# Altium footprint library WE-PD2A.PcbLib: 4 footprints
Each footprint in its own frame and in the unit in brackets; x right, y up, seen from the top. Pads: shape width x height; smd on the part's side, far side on the other; paste and mask are expansions set on the pad; w line width, h text height; cw(c..) or ccw(c..) is an arc to the next point about the centre after c.
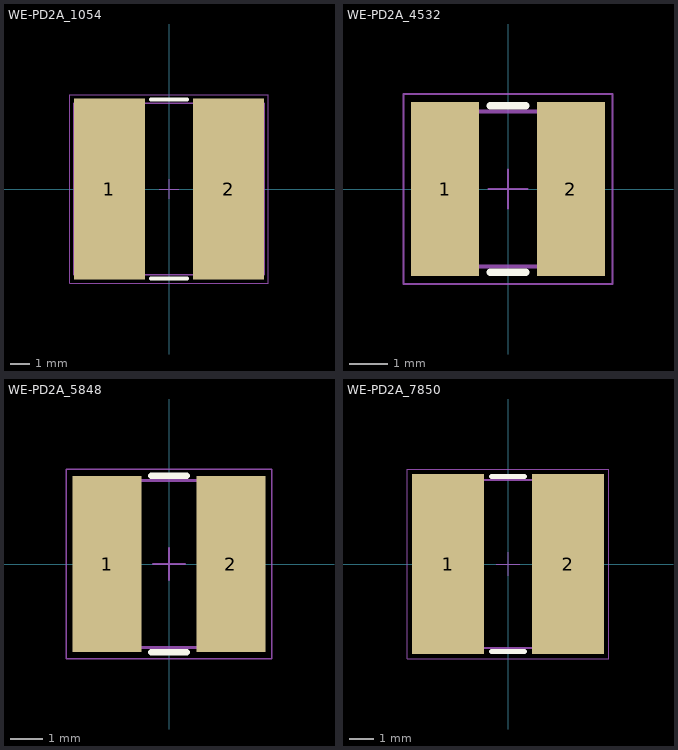
[diagram p0: the footprints below, top view; thin cyan lines are the x and y axes]

## WE-PD2A_1054 [mm] "SMD Power Inductor, body 10x9mm"
height 5.4
pads (2):
  rect 3.75x9.5 smd: 1(-3.125,0) 2(3.125,0)
Top Overlay:
  lines w0.2: -0.95,-4.7 0.95,-4.7 ; -0.95,4.7 0.95,4.7
Top Designator:
  text ".Designator" at -0.4,5.998 h1.2
Mechanical 13:
  lines w0.1: -5,-4.5 5,-4.5 5,4.5 -5,4.5 -5,-4.5
Mechanical 15:
  lines w0.05: -0.5,0 0.5,0 ; 0,-0.5 0,0.5 ; -5.2,-4.95 5.2,-4.95 5.2,4.95 -5.2,4.95 -5.2,-4.95
3D body "STEP-WE-PD2A-1054-rev1.stp": height 5.4, standoff 0, extent -4.931,-4.5 4.932,4.502

## WE-PD2A_4532 [mm] "SMD Power Inductor, body 4.5x4mm"
height 3.2
pads (2):
  rect 1.75x4.5 smd: 1(-1.625,0) 2(1.625,0)
Top Overlay:
  lines w0.2: -0.45,-2.15 0.45,-2.15 ; -0.45,2.15 0.45,2.15
Top Designator:
  text ".Designator" at -0.4,5.998 h1.2
Mechanical 13:
  lines w0.1: -2.25,-2 2.25,-2 2.25,2 -2.25,2 -2.25,-2
Mechanical 15:
  lines w0.05: -0.5,0 0.5,0 ; 0,-0.5 0,0.5 ; -2.7,-2.45 2.7,-2.45 2.7,2.45 -2.7,2.45 -2.7,-2.45
3D body "STEP-WE-PD2A-4532-rev1.stp": height 3.2, standoff 0, extent -2.155,-2 2.156,2

## WE-PD2A_5848 [mm] "SMD Power Inductor, body 5.8x5.2mm"
height 4.5
pads (2):
  rect 2.15x5.5 smd: 1(-1.925,0) 2(1.925,0)
Top Overlay:
  lines w0.2: -0.55,-2.75 0.55,-2.75 ; -0.55,2.75 0.55,2.75
Top Designator:
  text ".Designator" at -0.4,5.998 h1.2
Mechanical 13:
  lines w0.1: -2.9,-2.6 2.9,-2.6 2.9,2.6 -2.9,2.6 -2.9,-2.6
Mechanical 15:
  lines w0.05: -0.5,0 0.5,0 ; 0,-0.5 0,0.5 ; -3.2,-2.95 -3.2,2.95 3.2,2.95 3.2,-2.95 -3.2,-2.95
3D body "STEP-WE-PD2A-5848-rev1.stp": height 4.5, standoff 0, extent -2.899,-2.6 2.889,2.6

## WE-PD2A_7850 [mm] "SMD Power Inductor, body 7.8x7mm"
height 5
pads (2):
  rect 3x7.5 smd: 1(-2.5,0) 2(2.5,0)
Top Overlay:
  lines w0.2: -0.7,-3.65 0.7,-3.65 ; -0.7,3.65 0.7,3.65
Top Designator:
  text ".Designator" at -0.4,5.998 h1.2
Mechanical 13:
  lines w0.1: -3.9,-3.5 -3.9,3.5 3.9,3.5 3.9,-3.5 -3.9,-3.5
Mechanical 15:
  lines w0.05: -0.5,0 0.5,0 ; 0,-0.5 0,0.5 ; -4.2,-3.95 -4.2,3.95 4.2,3.95 4.2,-3.95 -4.2,-3.95
3D body "STEP-WE-PD2A-7850-rev1.stp": height 4.95, standoff 0, extent -3.813,-3.5 3.813,3.5